# Altium footprint library PCB - POWER INDUCTORS - TDK MLZ2012 0H85.PCBLIB: 1 footprints
Each footprint in its own frame and in the unit in brackets; x right, y up, seen from the top. Pads: shape width x height; smd on the part's side, far side on the other; paste and mask are expansions set on the pad; w line width, h text height; cw(c..) or ccw(c..) is an arc to the next point about the centre after c.
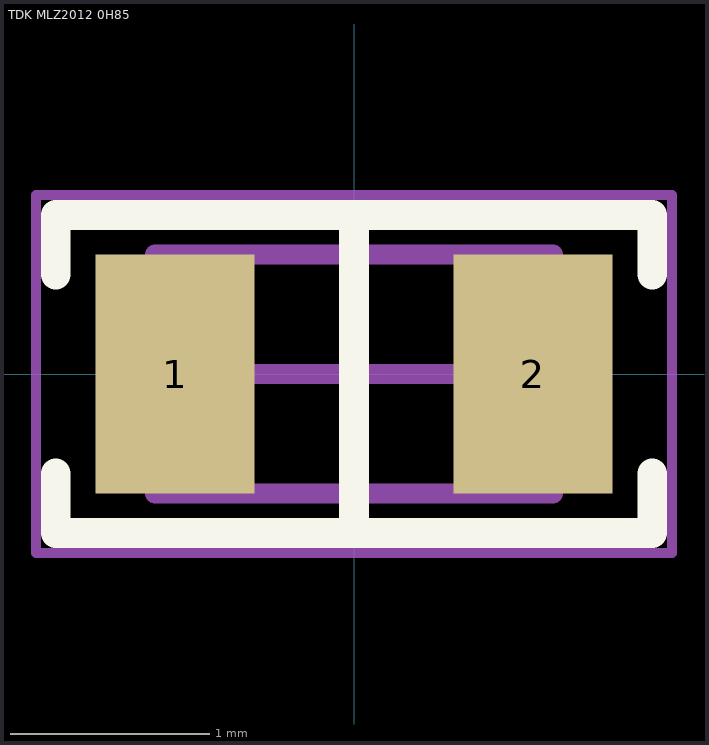
[diagram p0: the footprint, top view; thin cyan lines are the x and y axes]

## TDK MLZ2012 0H85 [mm] "Chip Inductor, 2-Leads, Body 2.00x1.25mm"
height 0.85
pads (2):
  rect 0.8x1.2 smd: 1(-0.9,0) 2(0.9,0)
Top Overlay:
  lines w0.15: -1.5,-0.5 -1.5,-0.8 1.5,-0.8 1.5,-0.5 ; -1.5,0.5 -1.5,0.8 1.5,0.8 1.5,0.5 ; 0,-0.8 0,0.8
Mechanical 13:
  lines w0.1: -1,-0.6 -1,0.6 1,0.6 1,-0.6 -1,-0.6
Mechanical 15:
  lines w0.05: -1.6,-0.9 1.6,-0.9 1.6,0.9 -1.6,0.9 -1.6,-0.9
  lines w0.1: -0.5,0 0.5,0 ; 0,-0.5 0,0.5
3D body "TDK - MLZ2012 0H85.step": height 0.85, standoff 0, extent -1,-0.625 1,0.625